# EAGLE library part SSCMNNN015PA2A3 (library NR_IC)
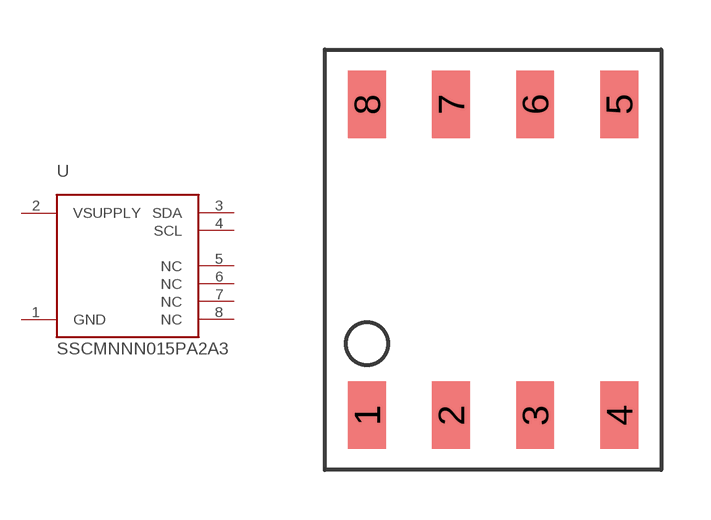
[diagram p8: symbol with the pads of HSC-SMT-8; footprint HSC-SMT-8]

Designator prefix U

## SSCMNNN015PA2A3  [HSC-SMT-8]
1  GND  pwr
2  VSUPPLY  pwr
3  SDA
4  SCL
5  NC  nc
6  NC  nc
7  NC  nc
8  NC  nc

## Footprint HSC-SMT-8 (pad centres in mm)
smd 1.143 x 2.032: 1 -3.81,-4.699; 2 -1.27,-4.699; 3 1.27,-4.699; 4 3.81,-4.699; 5 3.81,4.699; 6 1.27,4.699; 7 -1.27,4.699; 8 -3.81,4.699